# Altium schematic symbol library Pod2.SchLib: 7 symbols
Pins are listed as number, name and electrical type; pins without a type are passive.

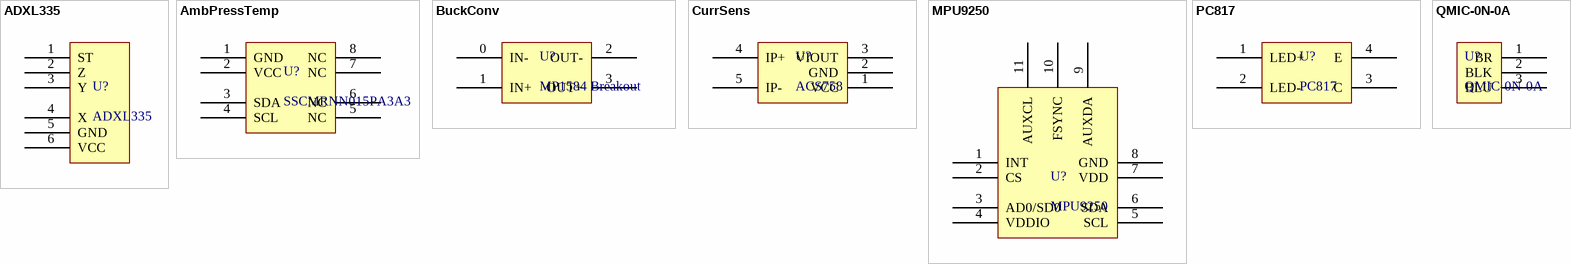
[diagram p0: symbols ADXL335 to QMIC-0N-0A]

## ADXL335
designator U?
footprint SparkFun ADXL335 (Analog Accelerometer)
pins: 1 ST, 2 Z, 3 Y, 4 X, 5 GND, 6 VCC

## AmbPressTemp
designator U?, comment SSCMRNN015PA3A3
footprint Honeywell SMD (Pressure Temperature Sensor)
pins: 1 GND, 2 VCC, 3 SDA, 4 SCL, 5 NC, 6 NC, 7 NC, 8 NC

## BuckConv
designator U?, comment MP1584 Breakout
footprint MP1584 Breakout (Cheap Amazon)
pins: 0 IN-, 1 IN+, 2 OUT-, 3 OUT+

## CurrSens
designator U?, comment ACS758
footprint ACS758 (Current Sensor)
pins: 1 VCC, 2 GND, 3 VIOUT, 4 IP+, 5 IP-

## MPU9250
designator U?
footprint SparkFun MPU9250
pins: 1 INT, 2 CS, 3 AD0/SD0, 4 VDDIO, 5 SCL, 6 SDA, 7 VDD, 8 GND, 9 AUXDA, 10 FSYNC, 11 AUXCL

## PC817
designator U?
footprint PC817 (Opto-Coupler)
pins: 1 LED+, 2 LED-, 3 C, 4 E

## QMIC-0N-0A
designator U?
footprint 3 Pin Header (Screw Terminal)
pins: 1 BR, 2 BLK, 3 BLU